# Altium schematic symbol library schlib.SchLib: 3 symbols
Pins are listed as number, name and electrical type; pins without a type are passive.

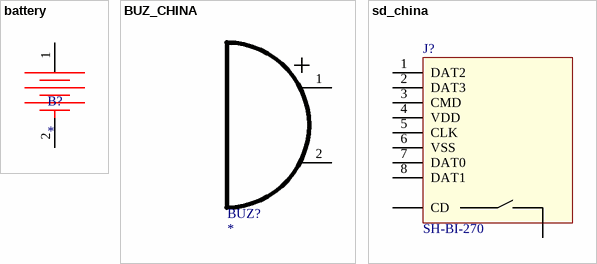
[diagram p0: symbols battery to sd_china]

## battery
designator B?
footprint Battery_3.6V_80mah
pins: 1, 2

## BUZ_CHINA
designator BUZ?
SCH_Footprint: *
footprint BUZ_CHINA (buzzer)
pins: 1, 2

## sd_china
designator J?, comment SH-BI-270
SH-BI-270 Chinese microSD socket; CustomComponentID: xyn8wfk4aykgkvbxxkv0
footprint SDCARD (Footprint not found)
pins: 1 DAT2, 2 DAT3, 3 CMD, 4 VDD, 5 CLK, 6 VSS, 7 DAT0, 8 DAT1, CD, S0 CD_VSS